# EAGLE library part MCP6L74T-E/ST (library 029000100  -  gKEagleLibrary)
IC, 2 MHz, 150 uA Quad Op Amps, 2.0V, TSSOP-14
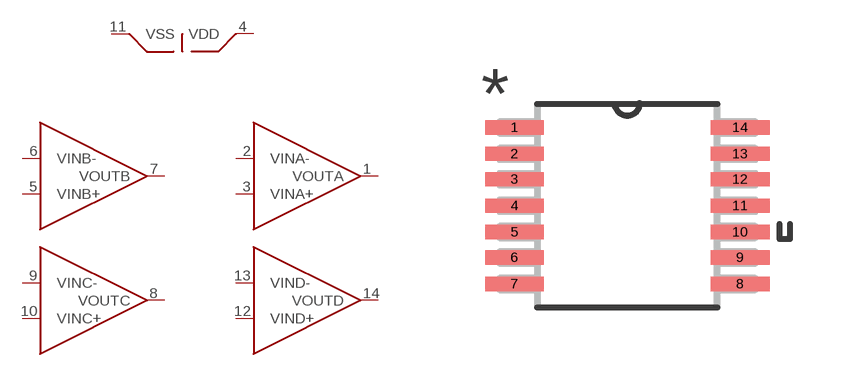
[diagram p31: symbol with the pads of SOP65P640X120-14N; footprint SOP65P640X120-14N]

Designator prefix U

## MCP6L74T-E/ST (MPN: MCP6L74T-E/ST; OC_FARNELL: 1852151; OC_NEWARK: 08R1828; PACKAGE: TSSOP-14; SUPPLIER: Microchip)  [SOP65P640X120-14N]
1  VOUTA  pas
2  VINA-  pas
3  VINA+  pas
4  VDD  pwr
5  VINB+  pas
6  VINB-  pas
7  VOUTB  pas
8  VOUTC  pas
9  VINC-  pas
10  VINC+  pas
11  VSS  pwr
12  VIND+  pas
13  VIND-  pas
14  VOUTD  pas

## Footprint SOP65P640X120-14N (pad centres in mm)
smd 1.473 x 0.356: 1 -2.819,1.956; 2 -2.819,1.295; 3 -2.819,0.66; 4 -2.819,0; 5 -2.819,-0.66; 6 -2.819,-1.295; 7 -2.819,-1.956; 8 2.819,-1.956; 9 2.819,-1.295; 10 2.819,-0.66; 11 2.819,0; 12 2.819,0.66; 13 2.819,1.295; 14 2.819,1.956